# EAGLE library part 52610-1871 (library molex)
SOCKET FFC/FPC
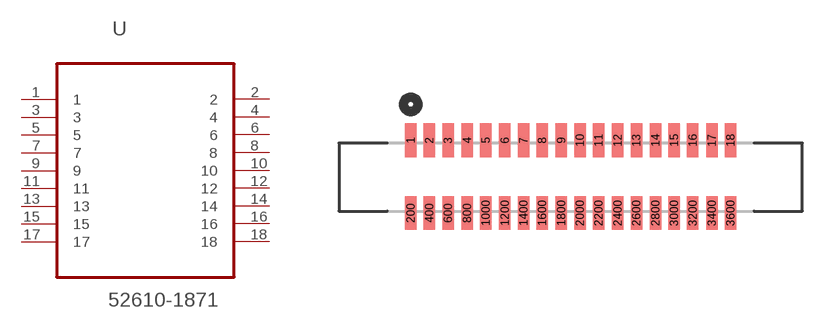
[diagram p19: symbol with the pads of MOLEX_52610-1871; footprint MOLEX_52610-1871]

Designator prefix U

## 52610-1871 (MPN: 52610-1871; OC_FARNELL: -; OC_NEWARK: 58J9778; PACKAGE: SOCKET FFC/FPC, 18 way; SUPPLIER: Molex)  [MOLEX_52610-1871]
1  1  pas
2  2  pas
3  3  pas
4  4  pas
5  5  pas
6  6  pas
7  7  pas
8  8  pas
9  9  pas
10  10  pas
11  11  pas
12  12  pas
13  13  pas
14  14  pas
15  15  pas
16  16  pas
17  17  pas
18  18  pas

## Footprint MOLEX_52610-1871 (pad centres in mm)
smd 0.61 x 1.803: 1 -16.993,3.861; 2 -16.002,3.861; 3 -15.011,3.861; 4 -13.995,3.861; 5 -13.005,3.861; 6 -11.989,3.861; 7 -10.998,3.861; 8 -10.008,3.861; 9 -8.992,3.861; 10 -8.001,3.861; 11 -7.01,3.861; 12 -5.994,3.861; 13 -5.004,3.861; 14 -3.988,3.861; 15 -2.997,3.861; 16 -2.007,3.861; 17 -0.991,3.861; 18 0,3.861; 200 -16.993,0; 400 -16.002,0; 600 -15.011,0; 800 -13.995,0; 1000 -13.005,0; 1200 -11.989,0; 1400 -10.998,0; 1600 -10.008,0; 1800 -8.992,0; 2000 -8.001,0; 2200 -7.01,0; 2400 -5.994,0; 2600 -5.004,0; 2800 -3.988,0; 3000 -2.997,0; 3200 -2.007,0; 3400 -0.991,0; 3600 0,0